# EAGLE library part DAC121S101 (library IC)
National Semiconductor DAC121S101 12 bit D/A Converter
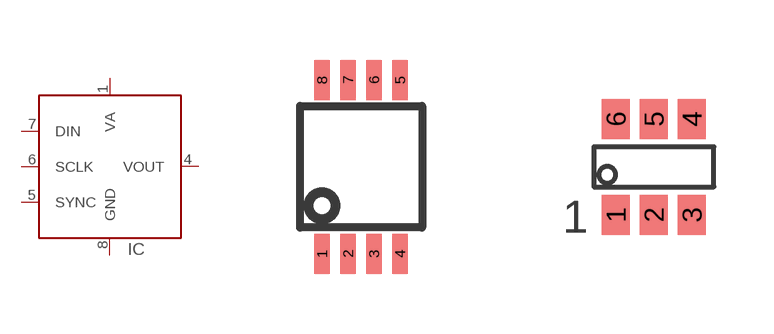
[diagram p122: symbol with the pads of MSOP-8; footprints MSOP-8, SOT23-6]

Designator prefix IC

## DAC121S101MM  [MSOP-8]
1  VA
4  VOUT
5  SYNC
6  SCLK
7  DIN
8  GND

## DAC121S101MK  [SOT23-6]
1  VOUT
2  GND
3  VA
4  DIN
5  SCLK
6  SYNC

## Footprint MSOP-8 (pad centres in mm)
Linear Tech MSOP-8, National Semiconductor MM, On-Semi Micro8 (DM)
smd 0.38 x 1: 1 -0.975,-2.175; 2 -0.325,-2.175; 3 0.325,-2.175; 4 0.975,-2.175; 5 0.975,2.175; 6 0.325,2.175; 7 -0.325,2.175; 8 -0.975,2.175

## Footprint SOT23-6 (pad centres in mm)
smd 0.7 x 1: 1 -0.95,-1.2; 2 0,-1.2; 3 0.95,-1.2; 4 0.95,1.2; 5 0,1.2; 6 -0.95,1.2